# Altium schematic symbol library OLED.SchLib: 1 symbol
Pins are listed as number, name and electrical type; pins without a type are passive.

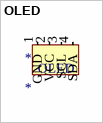
[diagram p0: symbol OLED]

## OLED
designator *
footprint oled
pins: 1 GND, 2 VCC, 3 SCL, 4 SDA